# Altium schematic symbol library TVS_8CHAN_UNI.SchLib: 1 symbol
Pins are listed as number, name and electrical type; pins without a type are passive.

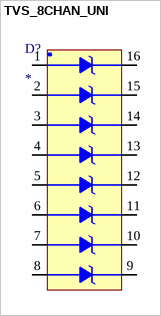
[diagram p0: symbol TVS_8CHAN_UNI]

## TVS_8CHAN_UNI
designator D?
Value: *
pins: 1, 2 I/O2, 3 I/O3, 4 GND, 5 GND1, 6 I/O4, 7 I/O5, 8 I/O6, 9 I/O6, 10 I/O5, 11 I/O4, 12 GND1, 13 GND, 14 I/O3, 15 I/O2, 16 1